# Altium schematic symbol library RES,2R2,5%,0.10W,0603.Schlib: 1 symbol
Pins are listed as number, name and electrical type; pins without a type are passive.

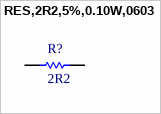
[diagram p0: symbol RES,2R2,5%,0.10W,0603]

## RES,2R2,5%,0.10W,0603
designator R?, comment 2R2
RES SMD 2.2 OHM 5% 1/10W 0603
pins: 1, 2